# Altium schematic symbol library MT40A512M16LY-075E_D.SchLib: 1 symbol
Pins are listed as number, name and electrical type; pins without a type are passive.

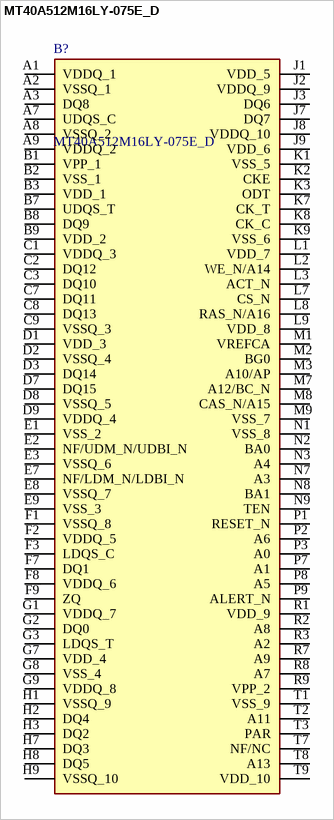
[diagram p0: symbol MT40A512M16LY-075E_D]

## MT40A512M16LY-075E_D
designator B?
VDD = VDDQ = 1.2V +/-60mV; Manufacturer_Name: Micron; Manufacturer_Part_Number: MT40A512M16LY-075E:D; Geometry.Height: 1.2mm; Mouser Part Number: *; Mouser Price/Stock: *; Arrow Part Number: *; Arrow Price/Stock: *; Datasheet Link: https://media-www.micron.com/-/media/client/global/documents/products/data-sheet/dram/ddr4/4gb_auto_ddr4_sdram.pdf
footprint BGA96C80P9X16_750X1350X120
pins: A1 VDDQ_1, A2 VSSQ_1, A3 DQ8, A7 UDQS_C, A8 VSSQ_2, A9 VDDQ_2, B1 VPP_1, B2 VSS_1, B3 VDD_1, B7 UDQS_T, B8 DQ9, B9 VDD_2, C1 VDDQ_3, C2 DQ12, C3 DQ10, C7 DQ11, C8 DQ13, C9 VSSQ_3, D1 VDD_3, D2 VSSQ_4, D3 DQ14, D7 DQ15, D8 VSSQ_5, D9 VDDQ_4, E1 VSS_2, E2 NF/UDM_N/UDBI_N, E3 VSSQ_6, E7 NF/LDM_N/LDBI_N, E8 VSSQ_7, E9 VSS_3, F1 VSSQ_8, F2 VDDQ_5, F3 LDQS_C, F7 DQ1, F8 VDDQ_6, F9 ZQ, G1 VDDQ_7, G2 DQ0, G3 LDQS_T, G7 VDD_4, G8 VSS_4, G9 VDDQ_8, H1 VSSQ_9, H2 DQ4, H3 DQ2, H7 DQ3, H8 DQ5, H9 VSSQ_10, J1 VDD_5, J2 VDDQ_9, J3 DQ6, J7 DQ7, J8 VDDQ_10, J9 VDD_6, K1 VSS_5, K2 CKE, K3 ODT, K7 CK_T, K8 CK_C, K9 VSS_6, L1 VDD_7, L2 WE_N/A14, L3 ACT_N, L7 CS_N, L8 RAS_N/A16, L9 VDD_8, M1 VREFCA, M2 BG0, M3 A10/AP, M7 A12/BC_N, M8 CAS_N/A15, M9 VSS_7, N1 VSS_8, N2 BA0, N3 A4, N7 A3, N8 BA1, N9 TEN, P1 RESET_N, P2 A6, P3 A0, P7 A1, P8 A5, P9 ALERT_N, R1 VDD_9, R2 A8, R3 A2, R7 A9, R8 A7, R9 VPP_2, T1 VSS_9, T2 A11, T3 PAR, T7 NF/NC, T8 A13, T9 VDD_10